# EAGLE library part LOGIC,SHIFTREG,8BIT,SERIN,BUF (library QuantumOptics)
Shift register, 8-bit, serial in, parallel out, double buffered, specifically 74xx594.
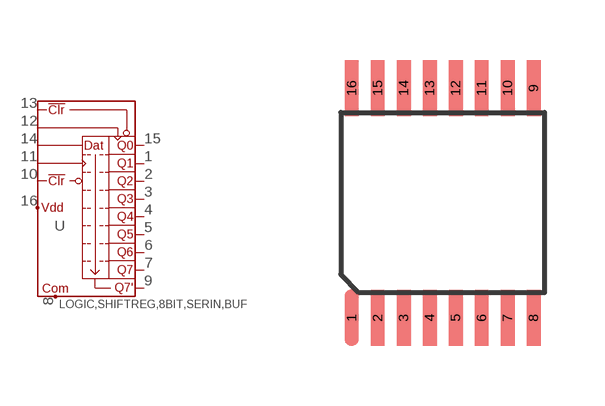
[diagram p220: symbol with the pads of TSSOP-16; footprint TSSOP-16]

Designator prefix U

## LOGIC,SHIFTREG,8BIT,SERIN,BUF-TSSOP16  [TSSOP-16]
1  Q1  out
2  Q2  out
3  Q3  out
4  Q4  out
5  Q5  out
6  Q6  out
7  Q7  out
8  COM
9  Q7A  out
10  !SCLR  in
11  SCLK  in
12  RCLK  in
13  !RCLR  in
14  DATAIN  in
15  Q0  out
16  VDD

## Footprint TSSOP-16 (pad centres in mm)
TSSOP-16, based on Maxim with 4.4mm body.
smd 0.35 x 1.4: 1 -2.275,-2.875; 2 -1.625,-2.875; 3 -0.975,-2.875; 4 -0.325,-2.875; 5 0.325,-2.875; 6 0.975,-2.875; 7 1.625,-2.875; 8 2.275,-2.875; 9 2.275,2.875; 10 1.625,2.875; 11 0.975,2.875; 12 0.325,2.875; 13 -0.325,2.875; 14 -0.975,2.875; 15 -1.625,2.875; 16 -2.275,2.875